# Altium schematic symbol library USB_4PIN.Schlib: 1 symbol
Pins are listed as number, name and electrical type; pins without a type are passive.

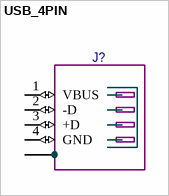
[diagram p0: symbol USB_4PIN]

## USB_4PIN
designator J?  (value not drawn)
pins: 1 VBUS (io), 2 -D (io), 3 +D (io), 4 GND (io), 5 SHIELD (power)